# Altium footprint library TPS62086RLTR.PcbLib: 1 footprints
Each footprint in its own frame and in the unit in brackets; x right, y up, seen from the top. Pads: shape width x height; smd on the part's side, far side on the other; paste and mask are expansions set on the pad; w line width, h text height; cw(c..) or ccw(c..) is an arc to the next point about the centre after c.
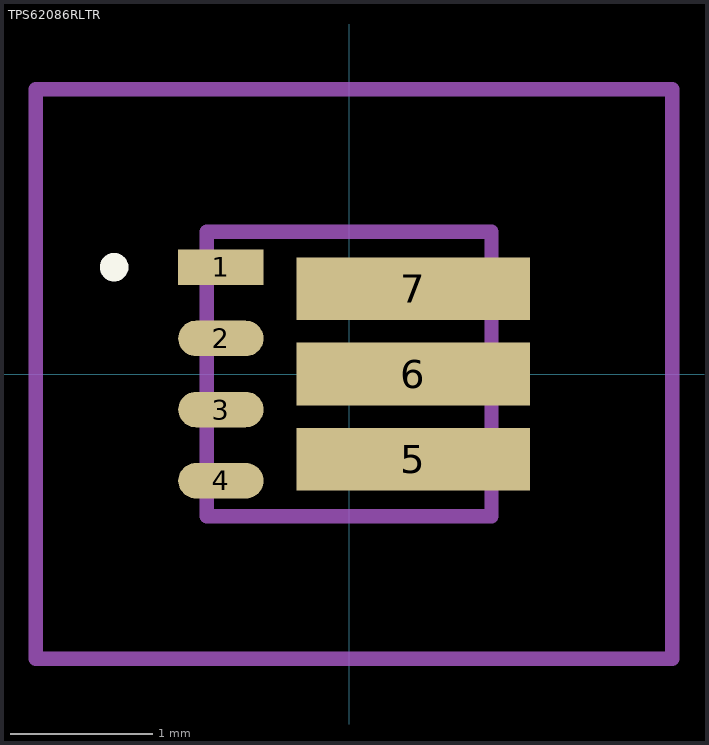
[diagram p0: the footprint, top view; thin cyan lines are the x and y axes]

## TPS62086RLTR [mm]
pads (7):
  rect 0.6x0.25 smd: 1(-0.9,0.75)
  oval 0.6x0.25 smd: 2(-0.9,0.25) 3(-0.9,-0.25) 4(-0.9,-0.75)
  rect 1.64x0.44 smd: 5(0.45,-0.6) 6(0.45,0) 7(0.45,0.6)
Top Overlay:
  lines w0.1: -1.7,0.75 cw(c-1.65,0.75) -1.6,0.75 ; -1.7,0.75 -1.7,0.75 ; -1.7,0.75 ccw(c-1.65,0.75) -1.6,0.75 ; -1.6,0.75 -1.6,0.75
Mechanical 15:
  lines w0.1: -1,-1 1,-1 1,1 -1,1 -1,-1
Mechanical 20:
  lines w0.1: -2.2,-2 2.27,-2 2.27,2 -2.2,2 -2.2,-2